# EAGLE library part ADS8361 (library burr-brown-2)
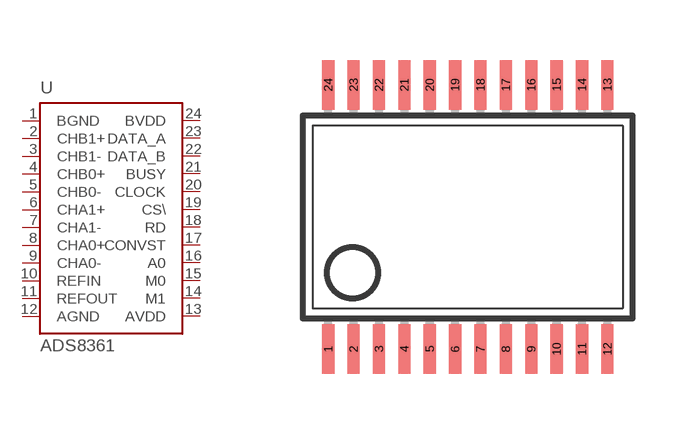
[diagram p0: symbol with the pads of SSOP24DB; footprint SSOP24DB]

Designator prefix -

## ADS8361  [SSOP24DB]
1  BGND  in
2  CHB1+  in
3  CHB1-  in
4  CHB0+  in
5  CHB0-  in
6  CHA1+  in
7  CHA1-  in
8  CHA0+  in
9  CHA0-  in
10  REFIN  in
11  REFOUT  in
12  AGND  in
13  AVDD  pwr
14  M1  pwr
15  M0  out
16  A0  out
17  CONVST  out
18  RD  in
19  CS\  in
20  CLOCK  in
21  BUSY  in
22  DATA_B  pwr
23  DATA_A  pwr
24  BVDD  pwr

## Footprint SSOP24DB (pad centres in mm)
smd 0.305 x 1.245: 1 -2.223,-3.302; 2 -1.587,-3.302; 3 -0.953,-3.302; 4 -0.318,-3.302; 5 0.318,-3.302; 6 0.953,-3.302; 7 1.587,-3.302; 8 2.223,-3.302; 9 2.857,-3.302; 10 3.493,-3.302; 11 4.128,-3.302; 12 4.763,-3.302; 13 4.763,3.302; 14 4.128,3.302; 15 3.493,3.302; 16 2.857,3.302; 17 2.223,3.302; 18 1.587,3.302; 19 0.953,3.302; 20 0.318,3.302; 21 -0.318,3.302; 22 -0.953,3.302; 23 -1.587,3.302; 24 -2.223,3.302